# EAGLE library part CONNECTOR-6 (library roombarmato_eagle_lib)
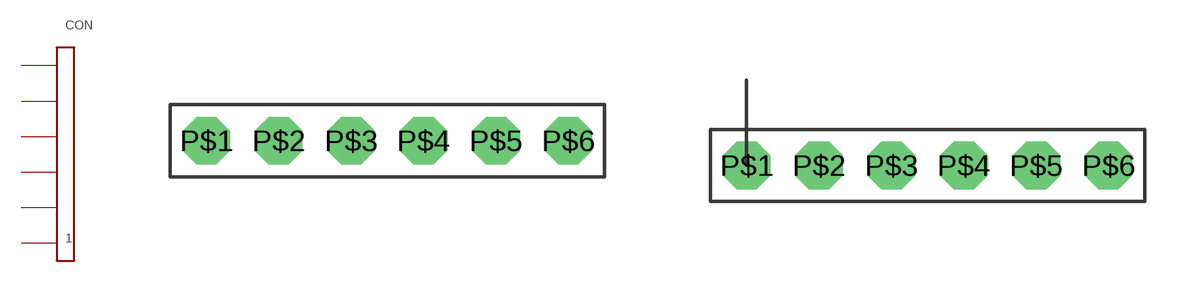
[diagram p2: symbol with the pads of 1X6-CONNECTOR; footprints 1X6-CONNECTOR, 1X6-CONNECTOR-90°]

Designator prefix CON

## CONNECTOR-6  [1X6-CONNECTOR]
P$1  P$1
P$2  P$2
P$3  P$3
P$4  P$4
P$5  P$5
P$6  P$6

## CONNECTOR-61X6-CONNECTOR-90°  [1X6-CONNECTOR-90°]
Pads as for 1X6-CONNECTOR

## Footprint 1X6-CONNECTOR (pad centres in mm)
drill 0.8 pad 1.676 octagon: P$1 -6.35,0; P$2 -3.81,0; P$3 -1.27,0; P$4 1.27,0; P$5 3.81,0; P$6 6.35,0

## Footprint 1X6-CONNECTOR-90° (pad centres in mm)
drill 0.8 pad 1.676 octagon: P$1 -6.35,0; P$2 -3.81,0; P$3 -1.27,0; P$4 1.27,0; P$5 3.81,0; P$6 6.35,0